# EAGLE library part 625016230621 (library Wire-to-Board (rev18a))
WR-BHD 2.00mm Male SMT Box Header With Lever, 16 pins
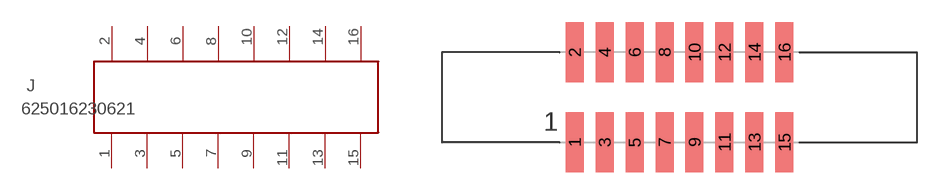
[diagram p224: symbol with the pads of 625016230621; footprint 625016230621]

Designator prefix J

## 625016230621  [625016230621]
1  1  pas
2  2  pas
3  3  pas
4  4  pas
5  5  pas
6  6  pas
7  7  pas
8  8  pas
9  9  pas
10  10  pas
11  11  pas
12  12  pas
13  13  pas
14  14  pas
15  15  pas
16  16  pas

## Footprint 625016230621 (pad centres in mm)
WR-BHD 2.00mm Male SMT Box Header With Lever, 16 pins
smd 1.2 x 4: 1 -7,-3; 2 -7,3; 3 -5,-3; 4 -5,3; 5 -3,-3; 6 -3,3; 7 -1,-3; 8 -1,3; 9 1,-3; 10 1,3; 11 3,-3; 12 3,3; 13 5,-3; 14 5,3; 15 7,-3; 16 7,3